# Altium integrated library Linear Technology Power Management System Supervisor, Monitor and Control.IntLib: 1611 symbols (part 32 of 100)
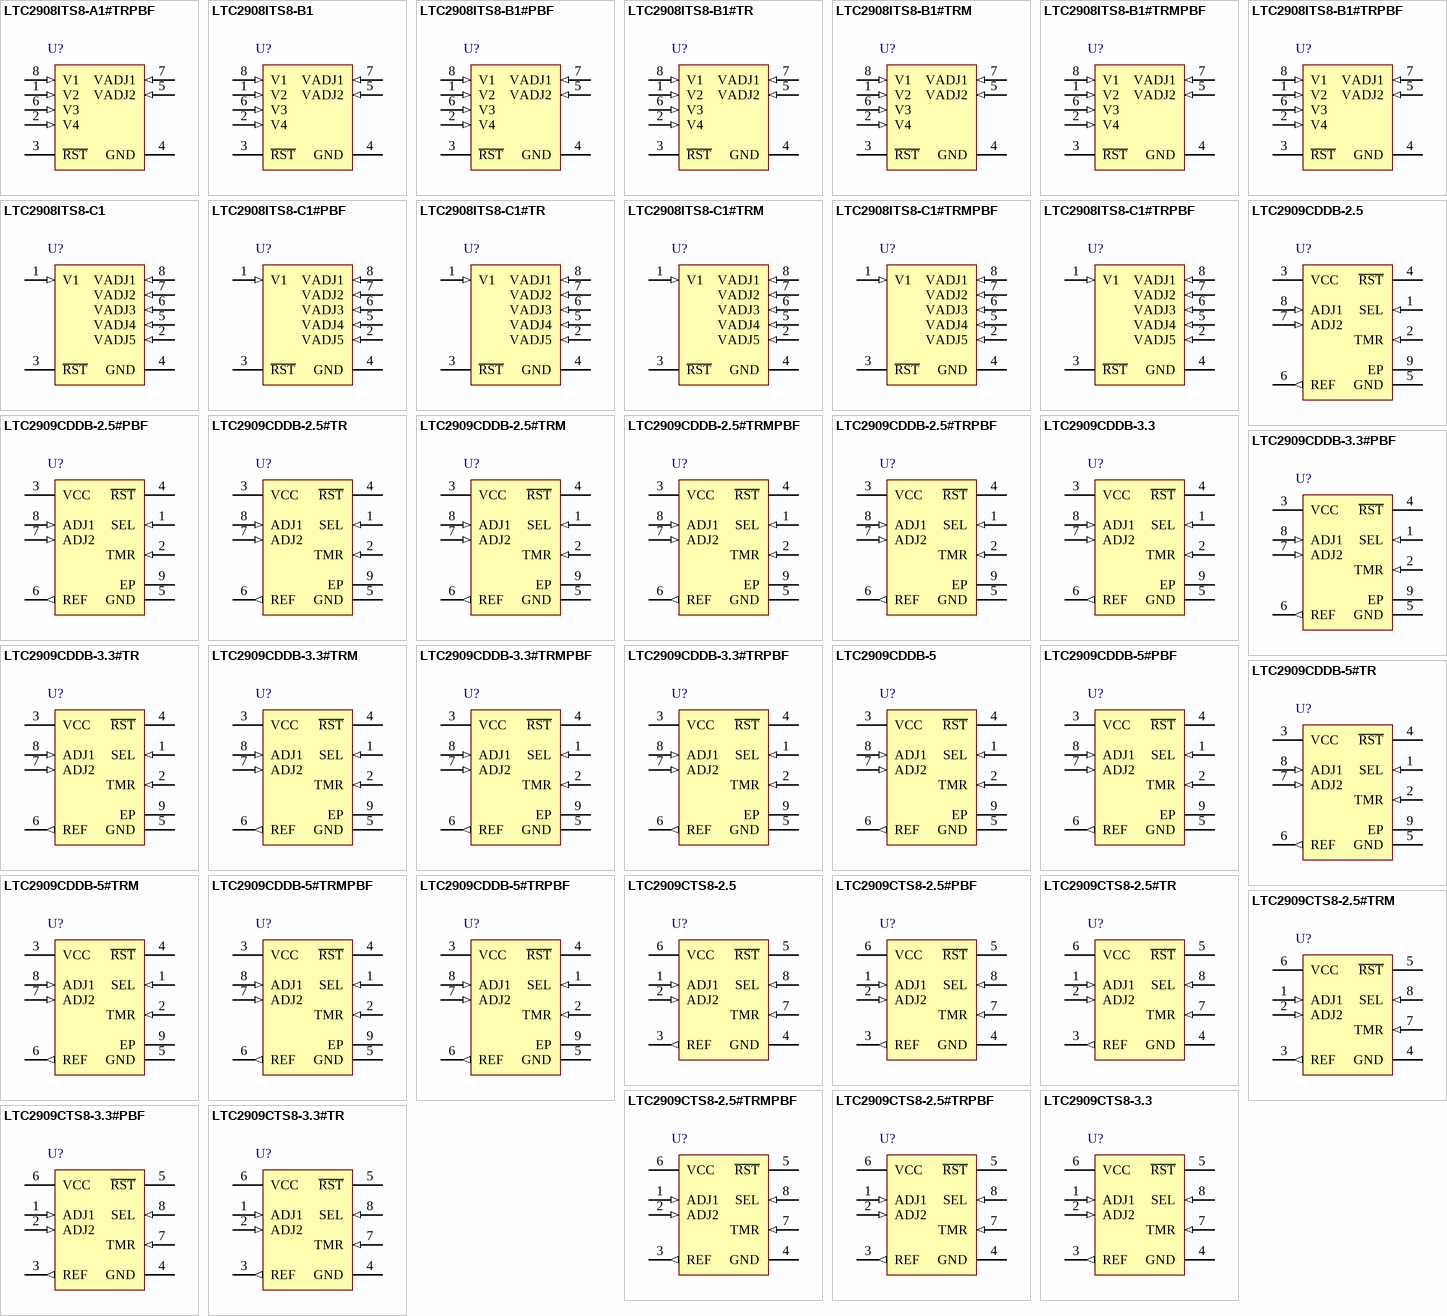
[diagram p76: symbols LTC2908ITS8-A1#TRPBF to LTC2909CTS8-3.3#TR]

## LTC2908ITS8-C1
designator U?
Precision Six Supply Monitor, 8-pin SOT23 (TS8-8), -40 to 85 degC; Manufacturer: Linear Technology; PartNumber: LTC2908ITS8-C1; Number of Supplies(#): 6; DatasheetVersion: Rev. D; PackageVersion: Rev. A, 08/2010; PackageReference: TS8-8; PackageDescription: 8-Pin Plastic TSOT-23, Body 2.9 x 1.63 mm, Pitch 0.65 mm; RoHS: FALSE; Mounting Technology: Surface Mount; Code_JEDEC: MO-193; ComponentLink1Description: Manufacturer URL; ComponentLink1URL: http://www.linear.com/; ComponentLink2Description: Datasheet; ComponentLink2URL: http://cds.linear.com/docs/en/datasheet/2908fd.pdf; ComponentLink3Description: Package Specification; ComponentLink3URL: http://cds.linear.com/docs/en/packaging/SOT_8_05-08-1637.pdf
footprint LT-TS8-8-TSOT-23_V (SOT23, 8-Leads, Body 2.9x1.75mm, Pitch 0.65mm)
pins: 1 V1 (in) "Voltage Input 1. V1 is the internal VCC. The operating voltage on this pin shall not exceed 6V. When in normal operation, this pin draws approximately 22uA. Bypass this pin to ground with a 0.1uF (or greater) capacitor.", 2 VADJ5 (in) "Adjustable Voltage Input 5. See Table 1 for recommended ADJ resistors values.", 3 ~{RST} (oc) "Reset Logic Output. Pulls low when any voltage input is below the reset threshold and is held low for 200ms after all voltage inputs are above threshold. This pin has a weak pull-up to VCC and may be pulled above VCC using (See Datasheet)", 4 GND (power) "Device Ground.", 5 VADJ4 (in) "Adjustable Voltage Input 4. See Table 1 for recommended ADJ resistors values.", 6 VADJ3 (in) "Adjustable Voltage Input 3. See Table 1 for recommended ADJ resistors values.", 7 VADJ2 (in) "Adjustable Voltage Input 2. See Table 1 for recommended ADJ resistors values.", 8 VADJ1 (in) "Adjustable Voltage Input 1. See Table 1 for recommended ADJ resistors values."

## LTC2908ITS8-C1#PBF
designator U?
Precision Six Supply Monitor, 8-pin SOT23 (TS8-8), -40 to 85 degC, Pb-Free; Manufacturer: Linear Technology; PartNumber: LTC2908ITS8-C1#PBF; Number of Supplies(#): 6; DatasheetVersion: Rev. D; PackageVersion: Rev. A, 08/2010; PackageReference: TS8-8; PackageDescription: 8-Pin Plastic TSOT-23, Body 2.9 x 1.63 mm, Pitch 0.65 mm; Supplier 1: Farnell; Supplier Part Number 1: 2295410; RoHS: TRUE; Mounting Technology: Surface Mount; Code_JEDEC: MO-193; ComponentLink1Description: Manufacturer URL; ComponentLink1URL: http://www.linear.com/; ComponentLink2Description: Datasheet; ComponentLink2URL: http://cds.linear.com/docs/en/datasheet/2908fd.pdf; ComponentLink3Description: Package Specification; ComponentLink3URL: http://cds.linear.com/docs/en/packaging/SOT_8_05-08-1637.pdf
footprint LT-TS8-8-TSOT-23_V (SOT23, 8-Leads, Body 2.9x1.75mm, Pitch 0.65mm)
pins: 1 V1 (in) "Voltage Input 1. V1 is the internal VCC. The operating voltage on this pin shall not exceed 6V. When in normal operation, this pin draws approximately 22uA. Bypass this pin to ground with a 0.1uF (or greater) capacitor.", 2 VADJ5 (in) "Adjustable Voltage Input 5. See Table 1 for recommended ADJ resistors values.", 3 ~{RST} (oc) "Reset Logic Output. Pulls low when any voltage input is below the reset threshold and is held low for 200ms after all voltage inputs are above threshold. This pin has a weak pull-up to VCC and may be pulled above VCC using (See Datasheet)", 4 GND (power) "Device Ground.", 5 VADJ4 (in) "Adjustable Voltage Input 4. See Table 1 for recommended ADJ resistors values.", 6 VADJ3 (in) "Adjustable Voltage Input 3. See Table 1 for recommended ADJ resistors values.", 7 VADJ2 (in) "Adjustable Voltage Input 2. See Table 1 for recommended ADJ resistors values.", 8 VADJ1 (in) "Adjustable Voltage Input 1. See Table 1 for recommended ADJ resistors values."

## LTC2908ITS8-C1#TR
designator U?
Precision Six Supply Monitor, 8-pin SOT23 (TS8-8), -40 to 85 degC, Tape and Reel; Manufacturer: Linear Technology; PartNumber: LTC2908ITS8-C1#TR; Number of Supplies(#): 6; DatasheetVersion: Rev. D; PackageVersion: Rev. A, 08/2010; PackageReference: TS8-8; PackageDescription: 8-Pin Plastic TSOT-23, Body 2.9 x 1.63 mm, Pitch 0.65 mm; Packing: Tape and Reel; RoHS: FALSE; Mounting Technology: Surface Mount; Code_JEDEC: MO-193; ComponentLink1Description: Manufacturer URL; ComponentLink1URL: http://www.linear.com/; ComponentLink2Description: Datasheet; ComponentLink2URL: http://cds.linear.com/docs/en/datasheet/2908fd.pdf; ComponentLink3Description: Package Specification; ComponentLink3URL: http://cds.linear.com/docs/en/packaging/SOT_8_05-08-1637.pdf
footprint LT-TS8-8-TSOT-23_V (SOT23, 8-Leads, Body 2.9x1.75mm, Pitch 0.65mm)
pins: 1 V1 (in) "Voltage Input 1. V1 is the internal VCC. The operating voltage on this pin shall not exceed 6V. When in normal operation, this pin draws approximately 22uA. Bypass this pin to ground with a 0.1uF (or greater) capacitor.", 2 VADJ5 (in) "Adjustable Voltage Input 5. See Table 1 for recommended ADJ resistors values.", 3 ~{RST} (oc) "Reset Logic Output. Pulls low when any voltage input is below the reset threshold and is held low for 200ms after all voltage inputs are above threshold. This pin has a weak pull-up to VCC and may be pulled above VCC using (See Datasheet)", 4 GND (power) "Device Ground.", 5 VADJ4 (in) "Adjustable Voltage Input 4. See Table 1 for recommended ADJ resistors values.", 6 VADJ3 (in) "Adjustable Voltage Input 3. See Table 1 for recommended ADJ resistors values.", 7 VADJ2 (in) "Adjustable Voltage Input 2. See Table 1 for recommended ADJ resistors values.", 8 VADJ1 (in) "Adjustable Voltage Input 1. See Table 1 for recommended ADJ resistors values."

## LTC2908ITS8-C1#TRM
designator U?
Precision Six Supply Monitor, 8-pin SOT23 (TS8-8), -40 to 85 degC, Mini Tape and Reel; Manufacturer: Linear Technology; PartNumber: LTC2908ITS8-C1#TRM; Number of Supplies(#): 6; DatasheetVersion: Rev. D; PackageVersion: Rev. A, 08/2010; PackageReference: TS8-8; PackageDescription: 8-Pin Plastic TSOT-23, Body 2.9 x 1.63 mm, Pitch 0.65 mm; Packing: Mini Tape and Reel; RoHS: FALSE; Mounting Technology: Surface Mount; Code_JEDEC: MO-193; ComponentLink1Description: Manufacturer URL; ComponentLink1URL: http://www.linear.com/; ComponentLink2Description: Datasheet; ComponentLink2URL: http://cds.linear.com/docs/en/datasheet/2908fd.pdf; ComponentLink3Description: Package Specification; ComponentLink3URL: http://cds.linear.com/docs/en/packaging/SOT_8_05-08-1637.pdf
footprint LT-TS8-8-TSOT-23_V (SOT23, 8-Leads, Body 2.9x1.75mm, Pitch 0.65mm)
pins: 1 V1 (in) "Voltage Input 1. V1 is the internal VCC. The operating voltage on this pin shall not exceed 6V. When in normal operation, this pin draws approximately 22uA. Bypass this pin to ground with a 0.1uF (or greater) capacitor.", 2 VADJ5 (in) "Adjustable Voltage Input 5. See Table 1 for recommended ADJ resistors values.", 3 ~{RST} (oc) "Reset Logic Output. Pulls low when any voltage input is below the reset threshold and is held low for 200ms after all voltage inputs are above threshold. This pin has a weak pull-up to VCC and may be pulled above VCC using (See Datasheet)", 4 GND (power) "Device Ground.", 5 VADJ4 (in) "Adjustable Voltage Input 4. See Table 1 for recommended ADJ resistors values.", 6 VADJ3 (in) "Adjustable Voltage Input 3. See Table 1 for recommended ADJ resistors values.", 7 VADJ2 (in) "Adjustable Voltage Input 2. See Table 1 for recommended ADJ resistors values.", 8 VADJ1 (in) "Adjustable Voltage Input 1. See Table 1 for recommended ADJ resistors values."

## LTC2908ITS8-C1#TRMPBF
designator U?
Precision Six Supply Monitor, 8-pin SOT23 (TS8-8), -40 to 85 degC, Pb-Free, Mini Tape and Reel; Manufacturer: Linear Technology; PartNumber: LTC2908ITS8-C1#TRMPBF; Number of Supplies(#): 6; DatasheetVersion: Rev. D; PackageVersion: Rev. A, 08/2010; PackageReference: TS8-8; PackageDescription: 8-Pin Plastic TSOT-23, Body 2.9 x 1.63 mm, Pitch 0.65 mm; Supplier 1: Digi-Key; Supplier Part Number 1: LTC2908ITS8-C1#TRMPBFTR-ND; Supplier 2: Digi-Key; Supplier Part Number 2: LTC2908ITS8-C1#TRMPBFCT-ND; Supplier 3: Digi-Key; Supplier Part Number 3: LTC2908ITS8-C1#TRMPBFDKR-ND; Supplier 4: Newark; Supplier Part Number 4: 56M6769; Packing: Mini Tape and Reel; RoHS: TRUE; Mounting Technology: Surface Mount; Code_JEDEC: MO-193; ComponentLink1Description: Manufacturer URL; ComponentLink1URL: http://www.linear.com/; ComponentLink2Description: Datasheet; ComponentLink2URL: http://cds.linear.com/docs/en/datasheet/2908fd.pdf; ComponentLink3Description: Package Specification; ComponentLink3URL: http://cds.linear.com/docs/en/packaging/SOT_8_05-08-1637.pdf
footprint LT-TS8-8-TSOT-23_V (SOT23, 8-Leads, Body 2.9x1.75mm, Pitch 0.65mm)
pins: 1 V1 (in) "Voltage Input 1. V1 is the internal VCC. The operating voltage on this pin shall not exceed 6V. When in normal operation, this pin draws approximately 22uA. Bypass this pin to ground with a 0.1uF (or greater) capacitor.", 2 VADJ5 (in) "Adjustable Voltage Input 5. See Table 1 for recommended ADJ resistors values.", 3 ~{RST} (oc) "Reset Logic Output. Pulls low when any voltage input is below the reset threshold and is held low for 200ms after all voltage inputs are above threshold. This pin has a weak pull-up to VCC and may be pulled above VCC using (See Datasheet)", 4 GND (power) "Device Ground.", 5 VADJ4 (in) "Adjustable Voltage Input 4. See Table 1 for recommended ADJ resistors values.", 6 VADJ3 (in) "Adjustable Voltage Input 3. See Table 1 for recommended ADJ resistors values.", 7 VADJ2 (in) "Adjustable Voltage Input 2. See Table 1 for recommended ADJ resistors values.", 8 VADJ1 (in) "Adjustable Voltage Input 1. See Table 1 for recommended ADJ resistors values."

## LTC2908ITS8-C1#TRPBF
designator U?
Precision Six Supply Monitor, 8-pin SOT23 (TS8-8), -40 to 85 degC, Pb-Free, Tape and Reel; Manufacturer: Linear Technology; PartNumber: LTC2908ITS8-C1#TRPBF; Number of Supplies(#): 6; DatasheetVersion: Rev. D; PackageVersion: Rev. A, 08/2010; PackageReference: TS8-8; PackageDescription: 8-Pin Plastic TSOT-23, Body 2.9 x 1.63 mm, Pitch 0.65 mm; Supplier 1: Digi-Key; Supplier Part Number 1: LTC2908ITS8-C1#TRPBF-ND; Packing: Tape and Reel; RoHS: TRUE; Mounting Technology: Surface Mount; Code_JEDEC: MO-193; ComponentLink1Description: Manufacturer URL; ComponentLink1URL: http://www.linear.com/; ComponentLink2Description: Datasheet; ComponentLink2URL: http://cds.linear.com/docs/en/datasheet/2908fd.pdf; ComponentLink3Description: Package Specification; ComponentLink3URL: http://cds.linear.com/docs/en/packaging/SOT_8_05-08-1637.pdf
footprint LT-TS8-8-TSOT-23_V (SOT23, 8-Leads, Body 2.9x1.75mm, Pitch 0.65mm)
pins: 1 V1 (in) "Voltage Input 1. V1 is the internal VCC. The operating voltage on this pin shall not exceed 6V. When in normal operation, this pin draws approximately 22uA. Bypass this pin to ground with a 0.1uF (or greater) capacitor.", 2 VADJ5 (in) "Adjustable Voltage Input 5. See Table 1 for recommended ADJ resistors values.", 3 ~{RST} (oc) "Reset Logic Output. Pulls low when any voltage input is below the reset threshold and is held low for 200ms after all voltage inputs are above threshold. This pin has a weak pull-up to VCC and may be pulled above VCC using (See Datasheet)", 4 GND (power) "Device Ground.", 5 VADJ4 (in) "Adjustable Voltage Input 4. See Table 1 for recommended ADJ resistors values.", 6 VADJ3 (in) "Adjustable Voltage Input 3. See Table 1 for recommended ADJ resistors values.", 7 VADJ2 (in) "Adjustable Voltage Input 2. See Table 1 for recommended ADJ resistors values.", 8 VADJ1 (in) "Adjustable Voltage Input 1. See Table 1 for recommended ADJ resistors values."

## LTC2909CDDB-2.5
designator U?
Precision Triple / Dual Input UV, OV and Negative Voltage Monitor, 8-pin SON (DDB-8), 0 to 70 degC; Manufacturer: Linear Technology; PartNumber: LTC2909CDDB-2.5; Number of Supplies(#): 3; DatasheetVersion: Rev. B; PackageVersion: Rev. B, 06/2010; PackageReference: DDB-8; PackageDescription: 8-Pin Plastic DFN, Body 3 x 2 mm, Pitch 0.5 mm; RoHS: FALSE; Mounting Technology: Surface Mount; Code_JEDEC: MO-229; ComponentLink1Description: Manufacturer URL; ComponentLink1URL: http://www.linear.com/; ComponentLink2Description: Datasheet; ComponentLink2URL: http://cds.linear.com/docs/en/datasheet/2909fb.pdf; ComponentLink3Description: Package Specification; ComponentLink3URL: http://cds.linear.com/docs/en/packaging/DFN_8_05-08-1702.pdf
footprint LT-DDB-8_V (SON, 8-Leads, Body 3x2mm, Pitch 0.5mm, Thermal Pad 2.2x0.61mm)
pins: 1 SEL (in) "Input Polarity Select Three-State Input. Connect to VCC, GND or leave unconnected in open state to select one of three possible input polarity combinations (refer to Table 1).", 2 TMR (in) "Reset Timeout Control. Attach an external capacitor (CTMR) to GND to set a reset timeout of 9ms/nF. A low leakage ceramic capacitor is recommended for timer accuracy. Capacitors larger than 1uF (9 second timeout) are not (See Datasheet)", 3 VCC (power) "Power Supply. Bypass this pin to ground with a 0.1uF (or greater) capacitor. Operates as a direct supply input for voltages up to 6V. Operates as a shunt regulator for supply voltages greater than 6V and should have a (See Datasheet)", 4 ~{RST} (oc) "Open-Drain Inverted Reset Logic Output. Asserts low when any positive polarity input voltage is below threshold or any negative polarity input voltage is above threshold or VCC is below UVLO threshold. Held low for a timeout (See Datasheet)", 5 GND (power) "Device Ground.", 6 REF (out) "Buffered Reference Output. 1V nominal reference used for the offset of negative-monitoring applications. The buffered reference can source and sink 1mA. The reference can drive a capacitive load of up to 1000pF. Larger (See Datasheet)", 7 ADJ2 (in) "Adjustable Voltage Input 2. Input to voltage monitor comparator 2 (0.5V nominal threshold). The polarity of the input is selected by the state of the SEL pin (refer to Table 1). Tie to GND if unused (with SEL = GND or Open).", 8 ADJ1 (in) "Adjustable Voltage Input 1. Input to voltage monitor comparator 1 (0.5V nominal threshold). The polarity of the input is selected by the state of the SEL pin (refer to Table 1). Tie to REF if unused (with SEL = VCC or Open).", 9 EP "The Exposed Pad may be left unconnected. For better thermal contact, tie to a PCB trace. This trace must be grounded or unconnected."

## LTC2909CDDB-2.5#PBF
designator U?
Precision Triple / Dual Input UV, OV and Negative Voltage Monitor, 8-pin SON (DDB-8), 0 to 70 degC, Pb-Free,; Manufacturer: Linear Technology; PartNumber: LTC2909CDDB-2.5#PBF; Number of Supplies(#): 3; DatasheetVersion: Rev. B; PackageVersion: Rev. B, 06/2010; PackageReference: DDB-8; PackageDescription: 8-Pin Plastic DFN, Body 3 x 2 mm, Pitch 0.5 mm; Supplier 1: Farnell; Supplier Part Number 1: 2295411; RoHS: TRUE; Mounting Technology: Surface Mount; Code_JEDEC: MO-229; ComponentLink1Description: Manufacturer URL; ComponentLink1URL: http://www.linear.com/; ComponentLink2Description: Datasheet; ComponentLink2URL: http://cds.linear.com/docs/en/datasheet/2909fb.pdf; ComponentLink3Description: Package Specification; ComponentLink3URL: http://cds.linear.com/docs/en/packaging/DFN_8_05-08-1702.pdf
footprint LT-DDB-8_V (SON, 8-Leads, Body 3x2mm, Pitch 0.5mm, Thermal Pad 2.2x0.61mm)
pins: 1 SEL (in) "Input Polarity Select Three-State Input. Connect to VCC, GND or leave unconnected in open state to select one of three possible input polarity combinations (refer to Table 1).", 2 TMR (in) "Reset Timeout Control. Attach an external capacitor (CTMR) to GND to set a reset timeout of 9ms/nF. A low leakage ceramic capacitor is recommended for timer accuracy. Capacitors larger than 1uF (9 second timeout) are not (See Datasheet)", 3 VCC (power) "Power Supply. Bypass this pin to ground with a 0.1uF (or greater) capacitor. Operates as a direct supply input for voltages up to 6V. Operates as a shunt regulator for supply voltages greater than 6V and should have a (See Datasheet)", 4 ~{RST} (oc) "Open-Drain Inverted Reset Logic Output. Asserts low when any positive polarity input voltage is below threshold or any negative polarity input voltage is above threshold or VCC is below UVLO threshold. Held low for a timeout (See Datasheet)", 5 GND (power) "Device Ground.", 6 REF (out) "Buffered Reference Output. 1V nominal reference used for the offset of negative-monitoring applications. The buffered reference can source and sink 1mA. The reference can drive a capacitive load of up to 1000pF. Larger (See Datasheet)", 7 ADJ2 (in) "Adjustable Voltage Input 2. Input to voltage monitor comparator 2 (0.5V nominal threshold). The polarity of the input is selected by the state of the SEL pin (refer to Table 1). Tie to GND if unused (with SEL = GND or Open).", 8 ADJ1 (in) "Adjustable Voltage Input 1. Input to voltage monitor comparator 1 (0.5V nominal threshold). The polarity of the input is selected by the state of the SEL pin (refer to Table 1). Tie to REF if unused (with SEL = VCC or Open).", 9 EP "The Exposed Pad may be left unconnected. For better thermal contact, tie to a PCB trace. This trace must be grounded or unconnected."

## LTC2909CDDB-2.5#TR
designator U?
Precision Triple / Dual Input UV, OV and Negative Voltage Monitor, 8-pin SON (DDB-8), 0 to 70 degC, Tape and Reel; Manufacturer: Linear Technology; PartNumber: LTC2909CDDB-2.5#TR; Number of Supplies(#): 3; DatasheetVersion: Rev. B; PackageVersion: Rev. B, 06/2010; PackageReference: DDB-8; PackageDescription: 8-Pin Plastic DFN, Body 3 x 2 mm, Pitch 0.5 mm; Packing: Tape and Reel; RoHS: FALSE; Mounting Technology: Surface Mount; Code_JEDEC: MO-229; ComponentLink1Description: Manufacturer URL; ComponentLink1URL: http://www.linear.com/; ComponentLink2Description: Datasheet; ComponentLink2URL: http://cds.linear.com/docs/en/datasheet/2909fb.pdf; ComponentLink3Description: Package Specification; ComponentLink3URL: http://cds.linear.com/docs/en/packaging/DFN_8_05-08-1702.pdf
footprint LT-DDB-8_V (SON, 8-Leads, Body 3x2mm, Pitch 0.5mm, Thermal Pad 2.2x0.61mm)
pins: 1 SEL (in) "Input Polarity Select Three-State Input. Connect to VCC, GND or leave unconnected in open state to select one of three possible input polarity combinations (refer to Table 1).", 2 TMR (in) "Reset Timeout Control. Attach an external capacitor (CTMR) to GND to set a reset timeout of 9ms/nF. A low leakage ceramic capacitor is recommended for timer accuracy. Capacitors larger than 1uF (9 second timeout) are not (See Datasheet)", 3 VCC (power) "Power Supply. Bypass this pin to ground with a 0.1uF (or greater) capacitor. Operates as a direct supply input for voltages up to 6V. Operates as a shunt regulator for supply voltages greater than 6V and should have a (See Datasheet)", 4 ~{RST} (oc) "Open-Drain Inverted Reset Logic Output. Asserts low when any positive polarity input voltage is below threshold or any negative polarity input voltage is above threshold or VCC is below UVLO threshold. Held low for a timeout (See Datasheet)", 5 GND (power) "Device Ground.", 6 REF (out) "Buffered Reference Output. 1V nominal reference used for the offset of negative-monitoring applications. The buffered reference can source and sink 1mA. The reference can drive a capacitive load of up to 1000pF. Larger (See Datasheet)", 7 ADJ2 (in) "Adjustable Voltage Input 2. Input to voltage monitor comparator 2 (0.5V nominal threshold). The polarity of the input is selected by the state of the SEL pin (refer to Table 1). Tie to GND if unused (with SEL = GND or Open).", 8 ADJ1 (in) "Adjustable Voltage Input 1. Input to voltage monitor comparator 1 (0.5V nominal threshold). The polarity of the input is selected by the state of the SEL pin (refer to Table 1). Tie to REF if unused (with SEL = VCC or Open).", 9 EP "The Exposed Pad may be left unconnected. For better thermal contact, tie to a PCB trace. This trace must be grounded or unconnected."

## LTC2909CDDB-2.5#TRM
designator U?
Precision Triple / Dual Input UV, OV and Negative Voltage Monitor, 8-pin SON (DDB-8), 0 to 70 degC, Mini Tape and Reel; Manufacturer: Linear Technology; PartNumber: LTC2909CDDB-2.5#TRM; Number of Supplies(#): 3; DatasheetVersion: Rev. B; PackageVersion: Rev. B, 06/2010; PackageReference: DDB-8; PackageDescription: 8-Pin Plastic DFN, Body 3 x 2 mm, Pitch 0.5 mm; Packing: Mini Tape and Reel; RoHS: FALSE; Mounting Technology: Surface Mount; Code_JEDEC: MO-229; ComponentLink1Description: Manufacturer URL; ComponentLink1URL: http://www.linear.com/; ComponentLink2Description: Datasheet; ComponentLink2URL: http://cds.linear.com/docs/en/datasheet/2909fb.pdf; ComponentLink3Description: Package Specification; ComponentLink3URL: http://cds.linear.com/docs/en/packaging/DFN_8_05-08-1702.pdf
footprint LT-DDB-8_V (SON, 8-Leads, Body 3x2mm, Pitch 0.5mm, Thermal Pad 2.2x0.61mm)
pins: 1 SEL (in) "Input Polarity Select Three-State Input. Connect to VCC, GND or leave unconnected in open state to select one of three possible input polarity combinations (refer to Table 1).", 2 TMR (in) "Reset Timeout Control. Attach an external capacitor (CTMR) to GND to set a reset timeout of 9ms/nF. A low leakage ceramic capacitor is recommended for timer accuracy. Capacitors larger than 1uF (9 second timeout) are not (See Datasheet)", 3 VCC (power) "Power Supply. Bypass this pin to ground with a 0.1uF (or greater) capacitor. Operates as a direct supply input for voltages up to 6V. Operates as a shunt regulator for supply voltages greater than 6V and should have a (See Datasheet)", 4 ~{RST} (oc) "Open-Drain Inverted Reset Logic Output. Asserts low when any positive polarity input voltage is below threshold or any negative polarity input voltage is above threshold or VCC is below UVLO threshold. Held low for a timeout (See Datasheet)", 5 GND (power) "Device Ground.", 6 REF (out) "Buffered Reference Output. 1V nominal reference used for the offset of negative-monitoring applications. The buffered reference can source and sink 1mA. The reference can drive a capacitive load of up to 1000pF. Larger (See Datasheet)", 7 ADJ2 (in) "Adjustable Voltage Input 2. Input to voltage monitor comparator 2 (0.5V nominal threshold). The polarity of the input is selected by the state of the SEL pin (refer to Table 1). Tie to GND if unused (with SEL = GND or Open).", 8 ADJ1 (in) "Adjustable Voltage Input 1. Input to voltage monitor comparator 1 (0.5V nominal threshold). The polarity of the input is selected by the state of the SEL pin (refer to Table 1). Tie to REF if unused (with SEL = VCC or Open).", 9 EP "The Exposed Pad may be left unconnected. For better thermal contact, tie to a PCB trace. This trace must be grounded or unconnected."

## LTC2909CDDB-2.5#TRMPBF
designator U?
Precision Triple / Dual Input UV, OV and Negative Voltage Monitor, 8-pin SON (DDB-8), 0 to 70 degC, Pb-Free, Mini Tape and Reel; Manufacturer: Linear Technology; PartNumber: LTC2909CDDB-2.5#TRMPBF; Number of Supplies(#): 3; DatasheetVersion: Rev. B; PackageVersion: Rev. B, 06/2010; PackageReference: DDB-8; PackageDescription: 8-Pin Plastic DFN, Body 3 x 2 mm, Pitch 0.5 mm; Supplier 1: Digi-Key; Supplier Part Number 1: LTC2909CDDB-2.5#TRMPBFTR-ND; Supplier 2: Digi-Key; Supplier Part Number 2: LTC2909CDDB-2.5#TRMPBFCT-ND; Supplier 3: Digi-Key; Supplier Part Number 3: LTC2909CDDB-2.5#TRMPBFDKR-ND; Packing: Mini Tape and Reel; RoHS: TRUE; Mounting Technology: Surface Mount; Code_JEDEC: MO-229; ComponentLink1Description: Manufacturer URL; ComponentLink1URL: http://www.linear.com/; ComponentLink2Description: Datasheet; ComponentLink2URL: http://cds.linear.com/docs/en/datasheet/2909fb.pdf; ComponentLink3Description: Package Specification; ComponentLink3URL: http://cds.linear.com/docs/en/packaging/DFN_8_05-08-1702.pdf
footprint LT-DDB-8_V (SON, 8-Leads, Body 3x2mm, Pitch 0.5mm, Thermal Pad 2.2x0.61mm)
pins: 1 SEL (in) "Input Polarity Select Three-State Input. Connect to VCC, GND or leave unconnected in open state to select one of three possible input polarity combinations (refer to Table 1).", 2 TMR (in) "Reset Timeout Control. Attach an external capacitor (CTMR) to GND to set a reset timeout of 9ms/nF. A low leakage ceramic capacitor is recommended for timer accuracy. Capacitors larger than 1uF (9 second timeout) are not (See Datasheet)", 3 VCC (power) "Power Supply. Bypass this pin to ground with a 0.1uF (or greater) capacitor. Operates as a direct supply input for voltages up to 6V. Operates as a shunt regulator for supply voltages greater than 6V and should have a (See Datasheet)", 4 ~{RST} (oc) "Open-Drain Inverted Reset Logic Output. Asserts low when any positive polarity input voltage is below threshold or any negative polarity input voltage is above threshold or VCC is below UVLO threshold. Held low for a timeout (See Datasheet)", 5 GND (power) "Device Ground.", 6 REF (out) "Buffered Reference Output. 1V nominal reference used for the offset of negative-monitoring applications. The buffered reference can source and sink 1mA. The reference can drive a capacitive load of up to 1000pF. Larger (See Datasheet)", 7 ADJ2 (in) "Adjustable Voltage Input 2. Input to voltage monitor comparator 2 (0.5V nominal threshold). The polarity of the input is selected by the state of the SEL pin (refer to Table 1). Tie to GND if unused (with SEL = GND or Open).", 8 ADJ1 (in) "Adjustable Voltage Input 1. Input to voltage monitor comparator 1 (0.5V nominal threshold). The polarity of the input is selected by the state of the SEL pin (refer to Table 1). Tie to REF if unused (with SEL = VCC or Open).", 9 EP "The Exposed Pad may be left unconnected. For better thermal contact, tie to a PCB trace. This trace must be grounded or unconnected."

## LTC2909CDDB-2.5#TRPBF
designator U?
Precision Triple / Dual Input UV, OV and Negative Voltage Monitor, 8-pin SON (DDB-8), 0 to 70 degC, Pb-Free, Tape and Reel; Manufacturer: Linear Technology; PartNumber: LTC2909CDDB-2.5#TRPBF; Number of Supplies(#): 3; DatasheetVersion: Rev. B; PackageVersion: Rev. B, 06/2010; PackageReference: DDB-8; PackageDescription: 8-Pin Plastic DFN, Body 3 x 2 mm, Pitch 0.5 mm; Supplier 1: Digi-Key; Supplier Part Number 1: LTC2909CDDB-2.5#TRPBF-ND; Packing: Tape and Reel; RoHS: TRUE; Mounting Technology: Surface Mount; Code_JEDEC: MO-229; ComponentLink1Description: Manufacturer URL; ComponentLink1URL: http://www.linear.com/; ComponentLink2Description: Datasheet; ComponentLink2URL: http://cds.linear.com/docs/en/datasheet/2909fb.pdf; ComponentLink3Description: Package Specification; ComponentLink3URL: http://cds.linear.com/docs/en/packaging/DFN_8_05-08-1702.pdf
footprint LT-DDB-8_V (SON, 8-Leads, Body 3x2mm, Pitch 0.5mm, Thermal Pad 2.2x0.61mm)
pins: 1 SEL (in) "Input Polarity Select Three-State Input. Connect to VCC, GND or leave unconnected in open state to select one of three possible input polarity combinations (refer to Table 1).", 2 TMR (in) "Reset Timeout Control. Attach an external capacitor (CTMR) to GND to set a reset timeout of 9ms/nF. A low leakage ceramic capacitor is recommended for timer accuracy. Capacitors larger than 1uF (9 second timeout) are not (See Datasheet)", 3 VCC (power) "Power Supply. Bypass this pin to ground with a 0.1uF (or greater) capacitor. Operates as a direct supply input for voltages up to 6V. Operates as a shunt regulator for supply voltages greater than 6V and should have a (See Datasheet)", 4 ~{RST} (oc) "Open-Drain Inverted Reset Logic Output. Asserts low when any positive polarity input voltage is below threshold or any negative polarity input voltage is above threshold or VCC is below UVLO threshold. Held low for a timeout (See Datasheet)", 5 GND (power) "Device Ground.", 6 REF (out) "Buffered Reference Output. 1V nominal reference used for the offset of negative-monitoring applications. The buffered reference can source and sink 1mA. The reference can drive a capacitive load of up to 1000pF. Larger (See Datasheet)", 7 ADJ2 (in) "Adjustable Voltage Input 2. Input to voltage monitor comparator 2 (0.5V nominal threshold). The polarity of the input is selected by the state of the SEL pin (refer to Table 1). Tie to GND if unused (with SEL = GND or Open).", 8 ADJ1 (in) "Adjustable Voltage Input 1. Input to voltage monitor comparator 1 (0.5V nominal threshold). The polarity of the input is selected by the state of the SEL pin (refer to Table 1). Tie to REF if unused (with SEL = VCC or Open).", 9 EP "The Exposed Pad may be left unconnected. For better thermal contact, tie to a PCB trace. This trace must be grounded or unconnected."

## LTC2909CDDB-3.3
designator U?
Precision Triple / Dual Input UV, OV and Negative Voltage Monitor, 8-pin SON (DDB-8), 0 to 70 degC; Manufacturer: Linear Technology; PartNumber: LTC2909CDDB-3.3; Number of Supplies(#): 3; DatasheetVersion: Rev. B; PackageVersion: Rev. B, 06/2010; PackageReference: DDB-8; PackageDescription: 8-Pin Plastic DFN, Body 3 x 2 mm, Pitch 0.5 mm; RoHS: FALSE; Mounting Technology: Surface Mount; Code_JEDEC: MO-229; ComponentLink1Description: Manufacturer URL; ComponentLink1URL: http://www.linear.com/; ComponentLink2Description: Datasheet; ComponentLink2URL: http://cds.linear.com/docs/en/datasheet/2909fb.pdf; ComponentLink3Description: Package Specification; ComponentLink3URL: http://cds.linear.com/docs/en/packaging/DFN_8_05-08-1702.pdf
footprint LT-DDB-8_V (SON, 8-Leads, Body 3x2mm, Pitch 0.5mm, Thermal Pad 2.2x0.61mm)
pins: 1 SEL (in) "Input Polarity Select Three-State Input. Connect to VCC, GND or leave unconnected in open state to select one of three possible input polarity combinations (refer to Table 1).", 2 TMR (in) "Reset Timeout Control. Attach an external capacitor (CTMR) to GND to set a reset timeout of 9ms/nF. A low leakage ceramic capacitor is recommended for timer accuracy. Capacitors larger than 1uF (9 second timeout) are not (See Datasheet)", 3 VCC (power) "Power Supply. Bypass this pin to ground with a 0.1uF (or greater) capacitor. Operates as a direct supply input for voltages up to 6V. Operates as a shunt regulator for supply voltages greater than 6V and should have a (See Datasheet)", 4 ~{RST} (oc) "Open-Drain Inverted Reset Logic Output. Asserts low when any positive polarity input voltage is below threshold or any negative polarity input voltage is above threshold or VCC is below UVLO threshold. Held low for a timeout (See Datasheet)", 5 GND (power) "Device Ground.", 6 REF (out) "Buffered Reference Output. 1V nominal reference used for the offset of negative-monitoring applications. The buffered reference can source and sink 1mA. The reference can drive a capacitive load of up to 1000pF. Larger (See Datasheet)", 7 ADJ2 (in) "Adjustable Voltage Input 2. Input to voltage monitor comparator 2 (0.5V nominal threshold). The polarity of the input is selected by the state of the SEL pin (refer to Table 1). Tie to GND if unused (with SEL = GND or Open).", 8 ADJ1 (in) "Adjustable Voltage Input 1. Input to voltage monitor comparator 1 (0.5V nominal threshold). The polarity of the input is selected by the state of the SEL pin (refer to Table 1). Tie to REF if unused (with SEL = VCC or Open).", 9 EP "The Exposed Pad may be left unconnected. For better thermal contact, tie to a PCB trace. This trace must be grounded or unconnected."

## LTC2909CDDB-3.3#PBF
designator U?
Precision Triple / Dual Input UV, OV and Negative Voltage Monitor, 8-pin SON (DDB-8), 0 to 70 degC, Pb-Free; Manufacturer: Linear Technology; PartNumber: LTC2909CDDB-3.3#PBF; Number of Supplies(#): 3; DatasheetVersion: Rev. B; PackageVersion: Rev. B, 06/2010; PackageReference: DDB-8; PackageDescription: 8-Pin Plastic DFN, Body 3 x 2 mm, Pitch 0.5 mm; Supplier 1: Farnell; Supplier Part Number 1: 2295412; RoHS: TRUE; Mounting Technology: Surface Mount; Code_JEDEC: MO-229; ComponentLink1Description: Manufacturer URL; ComponentLink1URL: http://www.linear.com/; ComponentLink2Description: Datasheet; ComponentLink2URL: http://cds.linear.com/docs/en/datasheet/2909fb.pdf; ComponentLink3Description: Package Specification; ComponentLink3URL: http://cds.linear.com/docs/en/packaging/DFN_8_05-08-1702.pdf
footprint LT-DDB-8_V (SON, 8-Leads, Body 3x2mm, Pitch 0.5mm, Thermal Pad 2.2x0.61mm)
pins: 1 SEL (in) "Input Polarity Select Three-State Input. Connect to VCC, GND or leave unconnected in open state to select one of three possible input polarity combinations (refer to Table 1).", 2 TMR (in) "Reset Timeout Control. Attach an external capacitor (CTMR) to GND to set a reset timeout of 9ms/nF. A low leakage ceramic capacitor is recommended for timer accuracy. Capacitors larger than 1uF (9 second timeout) are not (See Datasheet)", 3 VCC (power) "Power Supply. Bypass this pin to ground with a 0.1uF (or greater) capacitor. Operates as a direct supply input for voltages up to 6V. Operates as a shunt regulator for supply voltages greater than 6V and should have a (See Datasheet)", 4 ~{RST} (oc) "Open-Drain Inverted Reset Logic Output. Asserts low when any positive polarity input voltage is below threshold or any negative polarity input voltage is above threshold or VCC is below UVLO threshold. Held low for a timeout (See Datasheet)", 5 GND (power) "Device Ground.", 6 REF (out) "Buffered Reference Output. 1V nominal reference used for the offset of negative-monitoring applications. The buffered reference can source and sink 1mA. The reference can drive a capacitive load of up to 1000pF. Larger (See Datasheet)", 7 ADJ2 (in) "Adjustable Voltage Input 2. Input to voltage monitor comparator 2 (0.5V nominal threshold). The polarity of the input is selected by the state of the SEL pin (refer to Table 1). Tie to GND if unused (with SEL = GND or Open).", 8 ADJ1 (in) "Adjustable Voltage Input 1. Input to voltage monitor comparator 1 (0.5V nominal threshold). The polarity of the input is selected by the state of the SEL pin (refer to Table 1). Tie to REF if unused (with SEL = VCC or Open).", 9 EP "The Exposed Pad may be left unconnected. For better thermal contact, tie to a PCB trace. This trace must be grounded or unconnected."

## LTC2909CDDB-3.3#TR
designator U?
Precision Triple / Dual Input UV, OV and Negative Voltage Monitor, 8-pin SON (DDB-8), 0 to 70 degC, Tape and Reel; Manufacturer: Linear Technology; PartNumber: LTC2909CDDB-3.3#TR; Number of Supplies(#): 3; DatasheetVersion: Rev. B; PackageVersion: Rev. B, 06/2010; PackageReference: DDB-8; PackageDescription: 8-Pin Plastic DFN, Body 3 x 2 mm, Pitch 0.5 mm; Packing: Tape and Reel; RoHS: FALSE; Mounting Technology: Surface Mount; Code_JEDEC: MO-229; ComponentLink1Description: Manufacturer URL; ComponentLink1URL: http://www.linear.com/; ComponentLink2Description: Datasheet; ComponentLink2URL: http://cds.linear.com/docs/en/datasheet/2909fb.pdf; ComponentLink3Description: Package Specification; ComponentLink3URL: http://cds.linear.com/docs/en/packaging/DFN_8_05-08-1702.pdf
footprint LT-DDB-8_V (SON, 8-Leads, Body 3x2mm, Pitch 0.5mm, Thermal Pad 2.2x0.61mm)
pins: 1 SEL (in) "Input Polarity Select Three-State Input. Connect to VCC, GND or leave unconnected in open state to select one of three possible input polarity combinations (refer to Table 1).", 2 TMR (in) "Reset Timeout Control. Attach an external capacitor (CTMR) to GND to set a reset timeout of 9ms/nF. A low leakage ceramic capacitor is recommended for timer accuracy. Capacitors larger than 1uF (9 second timeout) are not (See Datasheet)", 3 VCC (power) "Power Supply. Bypass this pin to ground with a 0.1uF (or greater) capacitor. Operates as a direct supply input for voltages up to 6V. Operates as a shunt regulator for supply voltages greater than 6V and should have a (See Datasheet)", 4 ~{RST} (oc) "Open-Drain Inverted Reset Logic Output. Asserts low when any positive polarity input voltage is below threshold or any negative polarity input voltage is above threshold or VCC is below UVLO threshold. Held low for a timeout (See Datasheet)", 5 GND (power) "Device Ground.", 6 REF (out) "Buffered Reference Output. 1V nominal reference used for the offset of negative-monitoring applications. The buffered reference can source and sink 1mA. The reference can drive a capacitive load of up to 1000pF. Larger (See Datasheet)", 7 ADJ2 (in) "Adjustable Voltage Input 2. Input to voltage monitor comparator 2 (0.5V nominal threshold). The polarity of the input is selected by the state of the SEL pin (refer to Table 1). Tie to GND if unused (with SEL = GND or Open).", 8 ADJ1 (in) "Adjustable Voltage Input 1. Input to voltage monitor comparator 1 (0.5V nominal threshold). The polarity of the input is selected by the state of the SEL pin (refer to Table 1). Tie to REF if unused (with SEL = VCC or Open).", 9 EP "The Exposed Pad may be left unconnected. For better thermal contact, tie to a PCB trace. This trace must be grounded or unconnected."

## LTC2909CDDB-3.3#TRM
designator U?
Precision Triple / Dual Input UV, OV and Negative Voltage Monitor, 8-pin SON (DDB-8), 0 to 70 degC, Mini Tape and Reel; Manufacturer: Linear Technology; PartNumber: LTC2909CDDB-3.3#TRM; Number of Supplies(#): 3; DatasheetVersion: Rev. B; PackageVersion: Rev. B, 06/2010; PackageReference: DDB-8; PackageDescription: 8-Pin Plastic DFN, Body 3 x 2 mm, Pitch 0.5 mm; Packing: Mini Tape and Reel; RoHS: FALSE; Mounting Technology: Surface Mount; Code_JEDEC: MO-229; ComponentLink1Description: Manufacturer URL; ComponentLink1URL: http://www.linear.com/; ComponentLink2Description: Datasheet; ComponentLink2URL: http://cds.linear.com/docs/en/datasheet/2909fb.pdf; ComponentLink3Description: Package Specification; ComponentLink3URL: http://cds.linear.com/docs/en/packaging/DFN_8_05-08-1702.pdf
footprint LT-DDB-8_V (SON, 8-Leads, Body 3x2mm, Pitch 0.5mm, Thermal Pad 2.2x0.61mm)
pins: 1 SEL (in) "Input Polarity Select Three-State Input. Connect to VCC, GND or leave unconnected in open state to select one of three possible input polarity combinations (refer to Table 1).", 2 TMR (in) "Reset Timeout Control. Attach an external capacitor (CTMR) to GND to set a reset timeout of 9ms/nF. A low leakage ceramic capacitor is recommended for timer accuracy. Capacitors larger than 1uF (9 second timeout) are not (See Datasheet)", 3 VCC (power) "Power Supply. Bypass this pin to ground with a 0.1uF (or greater) capacitor. Operates as a direct supply input for voltages up to 6V. Operates as a shunt regulator for supply voltages greater than 6V and should have a (See Datasheet)", 4 ~{RST} (oc) "Open-Drain Inverted Reset Logic Output. Asserts low when any positive polarity input voltage is below threshold or any negative polarity input voltage is above threshold or VCC is below UVLO threshold. Held low for a timeout (See Datasheet)", 5 GND (power) "Device Ground.", 6 REF (out) "Buffered Reference Output. 1V nominal reference used for the offset of negative-monitoring applications. The buffered reference can source and sink 1mA. The reference can drive a capacitive load of up to 1000pF. Larger (See Datasheet)", 7 ADJ2 (in) "Adjustable Voltage Input 2. Input to voltage monitor comparator 2 (0.5V nominal threshold). The polarity of the input is selected by the state of the SEL pin (refer to Table 1). Tie to GND if unused (with SEL = GND or Open).", 8 ADJ1 (in) "Adjustable Voltage Input 1. Input to voltage monitor comparator 1 (0.5V nominal threshold). The polarity of the input is selected by the state of the SEL pin (refer to Table 1). Tie to REF if unused (with SEL = VCC or Open).", 9 EP "The Exposed Pad may be left unconnected. For better thermal contact, tie to a PCB trace. This trace must be grounded or unconnected."

## LTC2909CDDB-3.3#TRMPBF
designator U?
Precision Triple / Dual Input UV, OV and Negative Voltage Monitor, 8-pin SON (DDB-8), 0 to 70 degC, Pb-Free, Mini Tape and Reel; Manufacturer: Linear Technology; PartNumber: LTC2909CDDB-3.3#TRMPBF; Number of Supplies(#): 3; DatasheetVersion: Rev. B; PackageVersion: Rev. B, 06/2010; PackageReference: DDB-8; PackageDescription: 8-Pin Plastic DFN, Body 3 x 2 mm, Pitch 0.5 mm; Supplier 1: Digi-Key; Supplier Part Number 1: LTC2909CDDB-3.3#TRMPBFTR-ND; Supplier 2: Digi-Key; Supplier Part Number 2: LTC2909CDDB-3.3#TRMPBFCT-ND; Supplier 3: Digi-Key; Supplier Part Number 3: LTC2909CDDB-3.3#TRMPBFDKR-ND; Packing: Mini Tape and Reel; RoHS: TRUE; Mounting Technology: Surface Mount; Code_JEDEC: MO-229; ComponentLink1Description: Manufacturer URL; ComponentLink1URL: http://www.linear.com/; ComponentLink2Description: Datasheet; ComponentLink2URL: http://cds.linear.com/docs/en/datasheet/2909fb.pdf; ComponentLink3Description: Package Specification; ComponentLink3URL: http://cds.linear.com/docs/en/packaging/DFN_8_05-08-1702.pdf
footprint LT-DDB-8_V (SON, 8-Leads, Body 3x2mm, Pitch 0.5mm, Thermal Pad 2.2x0.61mm)
pins: 1 SEL (in) "Input Polarity Select Three-State Input. Connect to VCC, GND or leave unconnected in open state to select one of three possible input polarity combinations (refer to Table 1).", 2 TMR (in) "Reset Timeout Control. Attach an external capacitor (CTMR) to GND to set a reset timeout of 9ms/nF. A low leakage ceramic capacitor is recommended for timer accuracy. Capacitors larger than 1uF (9 second timeout) are not (See Datasheet)", 3 VCC (power) "Power Supply. Bypass this pin to ground with a 0.1uF (or greater) capacitor. Operates as a direct supply input for voltages up to 6V. Operates as a shunt regulator for supply voltages greater than 6V and should have a (See Datasheet)", 4 ~{RST} (oc) "Open-Drain Inverted Reset Logic Output. Asserts low when any positive polarity input voltage is below threshold or any negative polarity input voltage is above threshold or VCC is below UVLO threshold. Held low for a timeout (See Datasheet)", 5 GND (power) "Device Ground.", 6 REF (out) "Buffered Reference Output. 1V nominal reference used for the offset of negative-monitoring applications. The buffered reference can source and sink 1mA. The reference can drive a capacitive load of up to 1000pF. Larger (See Datasheet)", 7 ADJ2 (in) "Adjustable Voltage Input 2. Input to voltage monitor comparator 2 (0.5V nominal threshold). The polarity of the input is selected by the state of the SEL pin (refer to Table 1). Tie to GND if unused (with SEL = GND or Open).", 8 ADJ1 (in) "Adjustable Voltage Input 1. Input to voltage monitor comparator 1 (0.5V nominal threshold). The polarity of the input is selected by the state of the SEL pin (refer to Table 1). Tie to REF if unused (with SEL = VCC or Open).", 9 EP "The Exposed Pad may be left unconnected. For better thermal contact, tie to a PCB trace. This trace must be grounded or unconnected."

## LTC2909CDDB-3.3#TRPBF
designator U?
Precision Triple / Dual Input UV, OV and Negative Voltage Monitor, 8-pin SON (DDB-8), 0 to 70 degC, Pb-Free, Tape and Reel; Manufacturer: Linear Technology; PartNumber: LTC2909CDDB-3.3#TRPBF; Number of Supplies(#): 3; DatasheetVersion: Rev. B; PackageVersion: Rev. B, 06/2010; PackageReference: DDB-8; PackageDescription: 8-Pin Plastic DFN, Body 3 x 2 mm, Pitch 0.5 mm; Supplier 1: Digi-Key; Supplier Part Number 1: LTC2909CDDB-3.3#TRPBF-ND; Packing: Tape and Reel; RoHS: TRUE; Mounting Technology: Surface Mount; Code_JEDEC: MO-229; ComponentLink1Description: Manufacturer URL; ComponentLink1URL: http://www.linear.com/; ComponentLink2Description: Datasheet; ComponentLink2URL: http://cds.linear.com/docs/en/datasheet/2909fb.pdf; ComponentLink3Description: Package Specification; ComponentLink3URL: http://cds.linear.com/docs/en/packaging/DFN_8_05-08-1702.pdf
footprint LT-DDB-8_V (SON, 8-Leads, Body 3x2mm, Pitch 0.5mm, Thermal Pad 2.2x0.61mm)
pins: 1 SEL (in) "Input Polarity Select Three-State Input. Connect to VCC, GND or leave unconnected in open state to select one of three possible input polarity combinations (refer to Table 1).", 2 TMR (in) "Reset Timeout Control. Attach an external capacitor (CTMR) to GND to set a reset timeout of 9ms/nF. A low leakage ceramic capacitor is recommended for timer accuracy. Capacitors larger than 1uF (9 second timeout) are not (See Datasheet)", 3 VCC (power) "Power Supply. Bypass this pin to ground with a 0.1uF (or greater) capacitor. Operates as a direct supply input for voltages up to 6V. Operates as a shunt regulator for supply voltages greater than 6V and should have a (See Datasheet)", 4 ~{RST} (oc) "Open-Drain Inverted Reset Logic Output. Asserts low when any positive polarity input voltage is below threshold or any negative polarity input voltage is above threshold or VCC is below UVLO threshold. Held low for a timeout (See Datasheet)", 5 GND (power) "Device Ground.", 6 REF (out) "Buffered Reference Output. 1V nominal reference used for the offset of negative-monitoring applications. The buffered reference can source and sink 1mA. The reference can drive a capacitive load of up to 1000pF. Larger (See Datasheet)", 7 ADJ2 (in) "Adjustable Voltage Input 2. Input to voltage monitor comparator 2 (0.5V nominal threshold). The polarity of the input is selected by the state of the SEL pin (refer to Table 1). Tie to GND if unused (with SEL = GND or Open).", 8 ADJ1 (in) "Adjustable Voltage Input 1. Input to voltage monitor comparator 1 (0.5V nominal threshold). The polarity of the input is selected by the state of the SEL pin (refer to Table 1). Tie to REF if unused (with SEL = VCC or Open).", 9 EP "The Exposed Pad may be left unconnected. For better thermal contact, tie to a PCB trace. This trace must be grounded or unconnected."

## LTC2909CDDB-5
designator U?
Precision Triple / Dual Input UV, OV and Negative Voltage Monitor, 8-pin SON (DDB-8), 0 to 70 degC; Manufacturer: Linear Technology; PartNumber: LTC2909CDDB-5; Number of Supplies(#): 3; DatasheetVersion: Rev. B; PackageVersion: Rev. B, 06/2010; PackageReference: DDB-8; PackageDescription: 8-Pin Plastic DFN, Body 3 x 2 mm, Pitch 0.5 mm; RoHS: FALSE; Mounting Technology: Surface Mount; Code_JEDEC: MO-229; ComponentLink1Description: Manufacturer URL; ComponentLink1URL: http://www.linear.com/; ComponentLink2Description: Datasheet; ComponentLink2URL: http://cds.linear.com/docs/en/datasheet/2909fb.pdf; ComponentLink3Description: Package Specification; ComponentLink3URL: http://cds.linear.com/docs/en/packaging/DFN_8_05-08-1702.pdf
footprint LT-DDB-8_V (SON, 8-Leads, Body 3x2mm, Pitch 0.5mm, Thermal Pad 2.2x0.61mm)
pins: 1 SEL (in) "Input Polarity Select Three-State Input. Connect to VCC, GND or leave unconnected in open state to select one of three possible input polarity combinations (refer to Table 1).", 2 TMR (in) "Reset Timeout Control. Attach an external capacitor (CTMR) to GND to set a reset timeout of 9ms/nF. A low leakage ceramic capacitor is recommended for timer accuracy. Capacitors larger than 1uF (9 second timeout) are not (See Datasheet)", 3 VCC (power) "Power Supply. Bypass this pin to ground with a 0.1uF (or greater) capacitor. Operates as a direct supply input for voltages up to 6V. Operates as a shunt regulator for supply voltages greater than 6V and should have a (See Datasheet)", 4 ~{RST} (oc) "Open-Drain Inverted Reset Logic Output. Asserts low when any positive polarity input voltage is below threshold or any negative polarity input voltage is above threshold or VCC is below UVLO threshold. Held low for a timeout (See Datasheet)", 5 GND (power) "Device Ground.", 6 REF (out) "Buffered Reference Output. 1V nominal reference used for the offset of negative-monitoring applications. The buffered reference can source and sink 1mA. The reference can drive a capacitive load of up to 1000pF. Larger (See Datasheet)", 7 ADJ2 (in) "Adjustable Voltage Input 2. Input to voltage monitor comparator 2 (0.5V nominal threshold). The polarity of the input is selected by the state of the SEL pin (refer to Table 1). Tie to GND if unused (with SEL = GND or Open).", 8 ADJ1 (in) "Adjustable Voltage Input 1. Input to voltage monitor comparator 1 (0.5V nominal threshold). The polarity of the input is selected by the state of the SEL pin (refer to Table 1). Tie to REF if unused (with SEL = VCC or Open).", 9 EP "The Exposed Pad may be left unconnected. For better thermal contact, tie to a PCB trace. This trace must be grounded or unconnected."